# EAGLE library part SN75LVDS83B (library we-chip)
TI SN75LVDS83B LVDS Transmitter
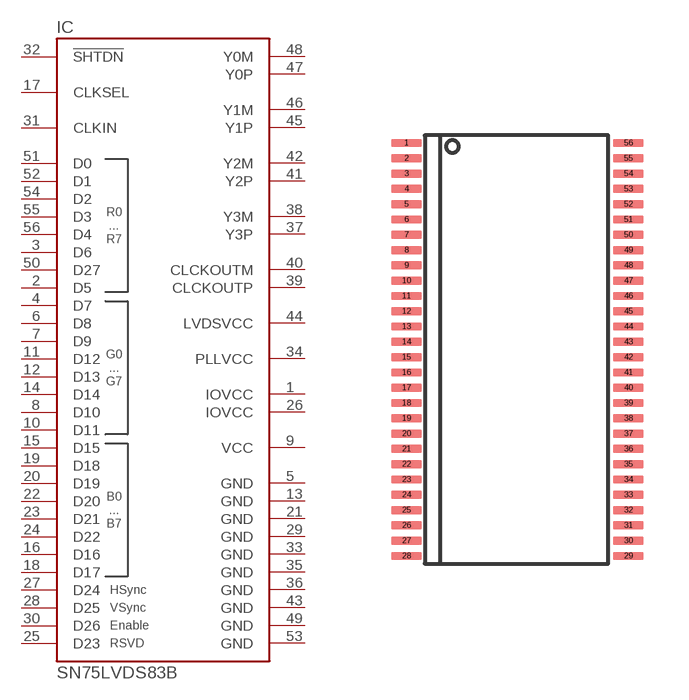
[diagram p7: symbol with the pads of TSSOP56; footprint TSSOP56]

Designator prefix IC

## SN75LVDS83B-DGGR (DIGIKEY: 296-24529-6-ND)  [TSSOP56]
1  IOVCC  pwr
2  D5
3  D6
4  D7
5  GND  pwr
6  D8
7  D9
8  D10
9  VCC  pwr
10  D11
11  D12
12  D13
13  GND  pwr
14  D14
15  D15
16  D16
17  CLKSEL
18  D17
19  D18
20  D19
21  GND  pwr
22  D20
23  D21
24  D22
25  D23
26  IOVCC  pwr
27  D24
28  D25
29  GND  pwr
30  D26
31  CLKIN
32  !SHTDN
33  GND  pwr
34  PLLVCC
35  GND  pwr
36  GND  pwr
37  Y3P
38  Y3M
39  CLCKOUTP
40  CLCKOUTM
41  Y2P
42  Y2M
43  GND  pwr
44  LVDSVCC
45  Y1P
46  Y1M
47  Y0P
48  Y0M
49  GND  pwr
50  D27
51  D0
52  D1
53  GND  pwr
54  D2
55  D3
56  D4

## Footprint TSSOP56 (pad centres in mm)
smd 1 x 0.28: 1 -3.6,6.75; 2 -3.6,6.25; 3 -3.6,5.75; 4 -3.6,5.25; 5 -3.6,4.75; 6 -3.6,4.25; 7 -3.6,3.75; 8 -3.6,3.25; 9 -3.6,2.75; 10 -3.6,2.25; 11 -3.6,1.75; 12 -3.6,1.25; 13 -3.6,0.75; 14 -3.6,0.25; 15 -3.6,-0.25; 16 -3.6,-0.75; 17 -3.6,-1.25; 18 -3.6,-1.75; 19 -3.6,-2.25; 20 -3.6,-2.75; 21 -3.6,-3.25; 22 -3.6,-3.75; 23 -3.6,-4.25; 24 -3.6,-4.75; 25 -3.6,-5.25; 26 -3.6,-5.75; 27 -3.6,-6.25; 28 -3.6,-6.75; 29 3.66,-6.75; 30 3.66,-6.25; 31 3.66,-5.75; 32 3.66,-5.25; 33 3.66,-4.75; 34 3.66,-4.25; 35 3.66,-3.75; 36 3.66,-3.25; 37 3.66,-2.75; 38 3.66,-2.25; 39 3.66,-1.75; 40 3.66,-1.25; 41 3.66,-0.75; 42 3.66,-0.25; 43 3.66,0.25; 44 3.66,0.75; 45 3.66,1.25; 46 3.66,1.75; 47 3.66,2.25; 48 3.66,2.75; 49 3.66,3.25; 50 3.66,3.75; 51 3.66,4.25; 52 3.66,4.75; 53 3.66,5.25; 54 3.66,5.75; 55 3.66,6.25; 56 3.66,6.75